# EAGLE library part WE-RJ45_7499511440 (library 74980104400_Eagle_WE-RJ45_rev19b)
WE-RJ45 LAN Transformer Characteristics RJ45 Connector with integrated transformer / common mode choke Power over Ethernet up to 50 Watt and speeds up to 10 Gbit/s Available in SMD, THT and THT with USB Compliant with standards: IEEE 802.3u, IEEE 802.3ab, IEEE 802.3af, IEEE 802.3at, IEEE 802.3an and upcoming IEE 802.3bt Applications Suitable for industrial temperatures from –40 °C up to +85 °C Compatible to Industrial Ethernet systems like EtherCAT or Profinet Compliant with most IC’s for Ethernet applications such as Microchip, Texas Instruments, Broadcom, Linear Technology Hubs, Routers, Switches, IP cameras, IoT applications <https://katalog.we-online.com/media/images/v2/o35731v209%20Family_WE-RJ45-LAN.jpg> Details see: https://katalog.we-online.com/en/pbs/WE-LAN-RJ45 Updated by Ella Wu 2019-08-05 2019 (C) Wurth Elektronik
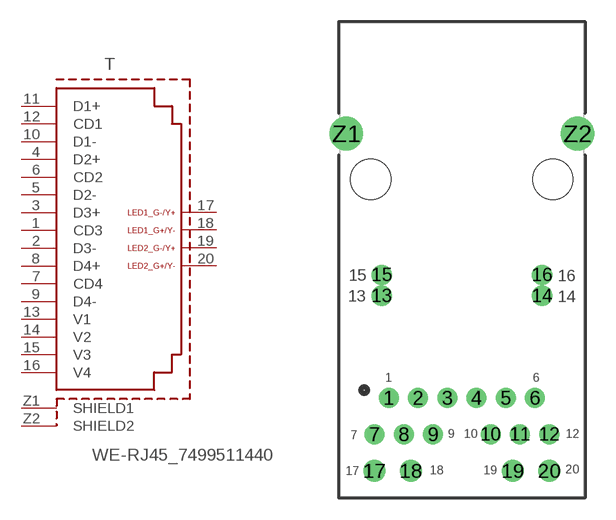
[diagram p50: symbol with the pads of 7499511440; footprint 7499511440]

Designator prefix T

## WE-RJ45_7499511440 (DATA-RATE: 10/100/1000 Base-T; DATASHEET-URL: https://katalog.we-online.com/pbs/datasheet/7499511440.pdf; LED: green/yellow-green/yellow; MOUNT: THT; PART-NUMBER: 7499511440; POE: PoE+ (up to 600 mA); PORTS: 1; USB: No)  [7499511440]
1  CD3
2  D3-
3  D3+
4  D2+
5  D2-
6  CD2
7  CD4
8  D4+
9  D4-
10  D1-
11  D1+
12  CD1
13  V1
14  V2
15  V3
16  V4
17  LED1_G-/Y+  pas
18  LED1_G+/Y-  pas
19  LED2_G-/Y+  pas
20  LED2_G+/Y-  pas
Z1  SHIELD1  pwr
Z2  SHIELD2  pwr

## Footprint 7499511440 (pad centres in mm)
WE-RJ45 LAN Transformer 10/100/1000 Base-T
drill 0.89: 1 -5.095,-15.24; 2 -3.055,-15.24; 3 -1.015,-15.24; 4 1.015,-15.24; 5 3.055,-15.24; 6 5.095,-15.24; 7 -6.09,-17.78; 8 -4.05,-17.78; 9 -2.01,-17.78; 10 2.01,-17.78; 11 4.05,-17.78; 12 6.09,-17.78
drill 0.89 pad 1.27: 13 -5.59,-8.12; 14 5.59,-8.12; 15 -5.59,-6.66; 16 5.59,-6.66
drill 1.02: 17 -6.095,-20.32; 18 -3.555,-20.32; 19 3.555,-20.32; 20 6.095,-20.32
drill 1.57: Z1 -8.065,3.18; Z2 8.065,3.18
hole 2.8 at -6.35,0
hole 2.8 at 6.35,0